# EAGLE library part LM22674_500MA_SWITCHING_VREG (library Taylor)
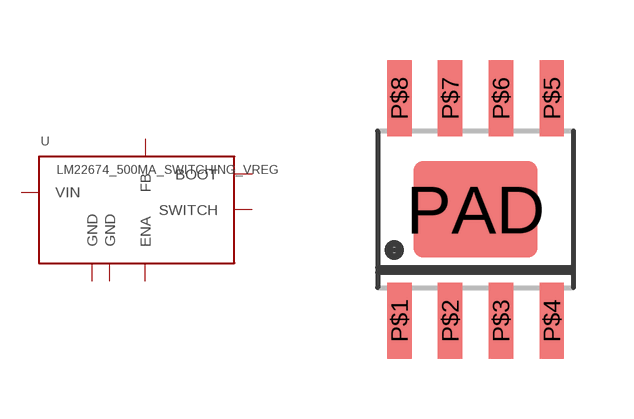
[diagram p18: symbol with the pads of EPSOP-8_SO8_WITH_THERMAL_PAD; footprint EPSOP-8_SO8_WITH_THERMAL_PAD]

Designator prefix -

## LM22674_500MA_SWITCHING_VREG  [EPSOP-8_SO8_WITH_THERMAL_PAD]
P$1  BOOT
P$4  FB
P$5  ENA
P$6  GND  pwr
P$7  VIN
P$8  SWITCH
PAD  GND  pwr

## Footprint EPSOP-8_SO8_WITH_THERMAL_PAD (pad centres in mm)
smd 0.61 x 1.905: P$1 -1.905,-2.781; P$2 -0.635,-2.781; P$3 0.635,-2.781; P$4 1.905,-2.781; P$5 1.905,2.781; P$6 0.635,2.781; P$7 -0.635,2.781; P$8 -1.905,2.781
smd 3.099 x 2.413: PAD 0,0